# Altium footprint library Research.PcbLib: 103 footprints (part 4 of 7)
Each footprint in its own frame and in the unit in brackets; x right, y up, seen from the top. Pads: shape width x height; smd on the part's side, far side on the other; paste and mask are expansions set on the pad; w line width, h text height; cw(c..) or ccw(c..) is an arc to the next point about the centre after c.
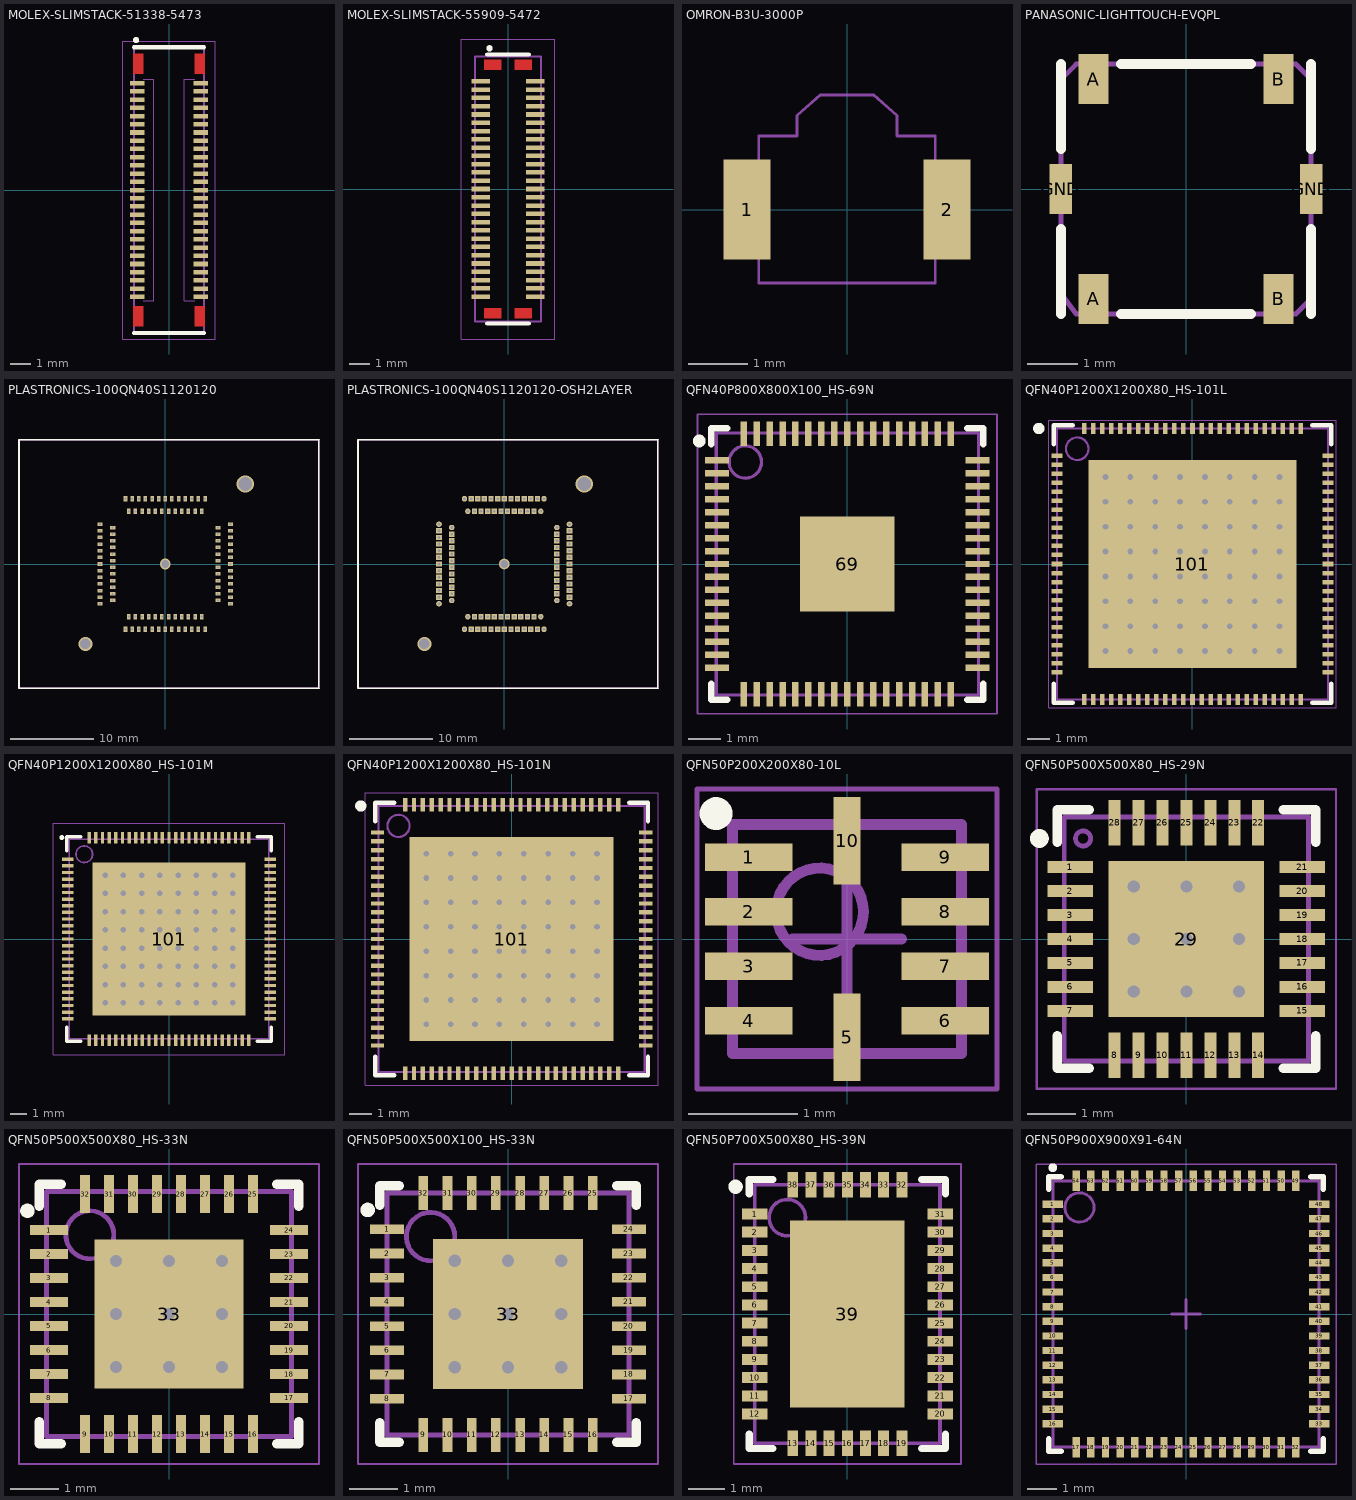
[diagram p3: the footprints below, top view; thin cyan lines are the x and y axes]

## MOLEX-SLIMSTACK-51338-5473 [mm] "Molex SlimStack Board-to-Board Conenctor, 54 pins, 1.5 mm Mated Height"
height 1.5
pads (54):
  rect 0.7x0.22 smd: 1(-1.55,5.2) 2(1.55,5.2) 3(-1.55,4.8) 4(1.55,4.8) 5(-1.55,4.4) 6(1.55,4.4) 7(-1.55,4) 8(1.55,4) 9(-1.55,3.6) 10(1.55,3.6) 11(-1.55,3.2) 12(1.55,3.2) 13(-1.55,2.8) 14(1.55,2.8) 15(-1.55,2.4) 16(1.55,2.4) 17(-1.55,2) 18(1.55,2) 19(-1.55,1.6) 20(1.55,1.6) 21(-1.55,1.2) 22(1.55,1.2) 23(-1.55,0.8) 24(1.55,0.8) 25(-1.55,0.4) 26(1.55,0.4) 27(-1.55,0) 28(1.55,0) 29(-1.55,-0.4) 30(1.55,-0.4) 31(-1.55,-0.8) 32(1.55,-0.8) 33(-1.55,-1.2) 34(1.55,-1.2) 35(-1.55,-1.6) 36(1.55,-1.6) 37(-1.55,-2) 38(1.55,-2) 39(-1.55,-2.4) 40(1.55,-2.4) 41(-1.55,-2.8) 42(1.55,-2.8) 43(-1.55,-3.2) 44(1.55,-3.2) 45(-1.55,-3.6) 46(1.55,-3.6) 47(-1.55,-4) 48(1.55,-4) 49(-1.55,-4.4) 50(1.55,-4.4) 51(-1.55,-4.8) 52(1.55,-4.8) 53(-1.55,-5.2) 54(1.55,-5.2)
Top Layer:
  rectangle: 1.25,-6.65 1.75,-5.65
  rectangle: -1.75,-6.65 -1.25,-5.65
  rectangle: 1.25,5.65 1.75,6.65
  rectangle: -1.75,5.65 -1.25,6.65
Top Overlay:
  circle w0.2: c-1.6,7.3 r0.05
  lines w0.2: -1.7,-6.95 1.7,-6.95 ; -1.7,6.95 1.7,6.95
Mechanical 13:
  lines w0.1: -1.7,-6.95 1.7,-6.95 1.7,6.95 -1.7,6.95 -1.7,-6.95
Mechanical 15:
  lines w0.05: -1.25,-5.4 -0.75,-5.4 -0.75,5.4 -1.25,5.4 ; 1.25,-5.4 0.75,-5.4 0.75,5.4 1.25,5.4 ; -2.25,-7.25 -2.25,7.25 2.25,7.25 2.25,-7.25 -2.25,-7.25
  text "KEEP ALL ROUTES PERPENDICULAR TO CONNECTOR" at -0.8,-5.25 h0.25
  text "KEEP ALL ROUTES PERPENDICULAR TO CONNECTOR" at 0.8,5.25 h0.25
Mechanical 29:
  text ".Designator" at -0.3,6.7 h0.8
3D body: height 1.37, standoff -0.03, extent -1.705,-6.95 1.705,6.95

## MOLEX-SLIMSTACK-55909-5472 [mm] "Molex SlimStack Board-to-Board Conenctor, 54 pins, 1.5 mm Mated Height"
height 1.5
pads (54):
  rect 0.9x0.22 smd: 1(-1.315,5.2) 2(1.315,5.2) 3(-1.315,4.8) 4(1.315,4.8) 5(-1.315,4.4) 6(1.315,4.4) 7(-1.315,4) 8(1.315,4) 9(-1.315,3.6) 10(1.315,3.6) 11(-1.315,3.2) 12(1.315,3.2) 13(-1.315,2.8) 14(1.315,2.8) 15(-1.315,2.4) 16(1.315,2.4) 17(-1.315,2) 18(1.315,2) 19(-1.315,1.6) 20(1.315,1.6) 21(-1.315,1.2) 22(1.315,1.2) 23(-1.315,0.8) 24(1.315,0.8) 25(-1.315,0.4) 26(1.315,0.4) 27(-1.315,0) 28(1.315,0) 29(-1.315,-0.4) 30(1.315,-0.4) 31(-1.315,-0.8) 32(1.315,-0.8) 33(-1.315,-1.2) 34(1.315,-1.2) 35(-1.315,-1.6) 36(1.315,-1.6) 37(-1.315,-2) 38(1.315,-2) 39(-1.315,-2.4) 40(1.315,-2.4) 41(-1.315,-2.8) 42(1.315,-2.8) 43(-1.315,-3.2) 44(1.315,-3.2) 45(-1.315,-3.6) 46(1.315,-3.6) 47(-1.315,-4) 48(1.315,-4) 49(-1.315,-4.4) 50(1.315,-4.4) 51(-1.315,-4.8) 52(1.315,-4.8) 53(-1.315,-5.2) 54(1.315,-5.2)
Top Layer:
  rectangle: 0.315,-6.25 1.165,-5.75
  rectangle: -1.165,-6.25 -0.315,-5.75
  rectangle: 0.315,5.75 1.165,6.25
  rectangle: -1.165,5.75 -0.315,6.25
Top Overlay:
  circle w0.2: c-0.9,6.8 r0.05
  lines w0.2: -1,-6.5 1,-6.5 ; -1,6.5 1,6.5
Mechanical 13:
  lines w0.1: -1.6,-6.4 1.6,-6.4 1.6,6.4 -1.6,6.4 -1.6,-6.4
Mechanical 15:
  lines w0.05: -2.25,-7.25 -2.25,7.25 2.25,7.25 2.25,-7.25 -2.25,-7.25
Mechanical 29:
  text ".Designator" at -0.3,5.5 h0.8
3D body: height 1.18, standoff -0.02, extent -1.565,-6.4 1.565,6.4

## OMRON-B3U-3000P [mm] "Ultra-Small-Sized Tactile Switch with High Contact Reliability"
height 1.2
pads (2):
  rect 0.8x1.7 smd: 1(-1.7,0) 2(1.7,0)
Mechanical 13:
  lines w0.05: -2,-0.7 -2,0.7 -1.5,0.7 -1.5,1.25 -0.85,1.25 -0.85,1.6 -0.45,1.95 0.45,1.95 0.85,1.6 0.85,1.25 1.5,1.25 1.5,0.7 2,0.7 2,-0.7 1.5,-0.7 1.5,-1.25 -1.5,-1.25 -1.5,-0.7 -2,-0.7
Mechanical 29:
  text ".Designator" at -1.4,-1.1 h0.8
3D body: height 0.2, standoff 0, extent 1.4,-0.7 2,0.7
3D body: height 0.2, standoff 0, extent -2,-0.7 -1.4,0.7
3D body: height 1.2, standoff 0.2, extent -0.85,1 0.85,1.95
3D body: height 1.35, standoff 0, extent -1.5,-1.25 1.5,1.25

## PANASONIC-LIGHTTOUCH-EVQPL [mm] "Panasonic Light Touch SMD push button"
height 1.5
pads (6):
  rect 0.6x1 smd: A(-1.85,-2.2) A(-1.85,2.2) B(1.85,-2.2) B(1.85,2.2)
  rect 0.45x1 smd: GND(-2.505,0) GND(2.5,0)
Top Overlay:
  lines w0.2: -2.5,-2.5 -2.5,-0.8 ; -2.5,0.8 -2.5,2.5 ; -1.3,-2.5 1.3,-2.5 ; -1.3,2.5 1.3,2.5 ; 2.5,-2.5 2.5,-0.8 ; 2.5,0.8 2.5,2.5
Mechanical 13:
  lines w0.1: -2.5,-2.1 -2.2,-2.5 2.2,-2.5 2.5,-2.2 2.5,2.2 2.2,2.5 -2.2,2.5 -2.5,2.2 -2.5,-2.1
Mechanical 29:
  text ".Designator" at -2,-2 h1
3D body: height 1.2, standoff 0, extent -1.7,-1.7 1.7,1.7
3D body: height 1.5, standoff 1, extent -1.19,-1.197 1.2,1.198
3D body: height 0.8, standoff 0, extent -2.5,-2.5 2.5,2.5

## PLASTRONICS-100QN40S1120120 [mm] "Plastronics QFN socket, 12x12mm, 0.4mm pitch, 100 contacts, spring probe center pin, PTH"
height 13.97
pads (100):
  rect 0.425x0.635 hole 0.254: 1(4.8,7.874) 2(4.4,6.35) 3(4,7.874) 4(3.6,6.35) 5(3.2,7.874) 6(2.8,6.35) 7(2.4,7.874) 8(2,6.35) 9(1.6,7.874) 10(1.2,6.35) 11(0.8,7.874) 12(0.4,6.35) 13(0,7.874) 14(-0.4,6.35) 15(-0.8,7.874) 16(-1.2,6.35) 17(-1.6,7.874) 18(-2,6.35) 19(-2.4,7.874) 20(-2.8,6.35) 21(-3.2,7.874) 22(-3.6,6.35) 23(-4,7.874) 24(-4.4,6.35) 25(-4.8,7.874) 51(-4.8,-7.874) 52(-4.4,-6.35) 53(-4,-7.874) 54(-3.6,-6.35) 55(-3.2,-7.874) 56(-2.8,-6.35) 57(-2.4,-7.874) 58(-2,-6.35) 59(-1.6,-7.874) 60(-1.2,-6.35) 61(-0.8,-7.874) 62(-0.4,-6.35) 63(0,-7.874) 64(0.4,-6.35) 65(0.8,-7.874) 66(1.2,-6.35) 67(1.6,-7.874) 68(2,-6.35) 69(2.4,-7.874) 70(2.8,-6.35) 71(3.2,-7.874) 72(3.6,-6.35) 73(4,-7.874) 74(4.4,-6.35) 75(4.8,-7.874)
  rect 0.635x0.425 hole 0.254: 26(-7.874,4.8) 27(-6.35,4.4) 28(-7.874,4) 29(-6.35,3.6) 30(-7.874,3.2) 31(-6.35,2.8) 32(-7.874,2.4) 33(-6.35,2) 34(-7.874,1.6) 35(-6.35,1.2) 36(-7.874,0.8) 37(-6.35,0.4) 38(-7.874,0) 39(-6.35,-0.4) 40(-7.874,-0.8) 41(-6.35,-1.2) 42(-7.874,-1.6) 43(-6.35,-2) 44(-7.874,-2.4) 45(-6.35,-2.8) 46(-7.874,-3.2) 47(-6.35,-3.6) 48(-7.874,-4) 49(-6.35,-4.4) 50(-7.874,-4.8) 76(7.874,-4.8) 77(6.35,-4.4) 78(7.874,-4) 79(6.35,-3.6) 80(7.874,-3.2) 81(6.35,-2.8) 82(7.874,-2.4) 83(6.35,-2) 84(7.874,-1.6) 85(6.35,-1.2) 86(7.874,-0.8) 87(6.35,-0.4) 88(7.874,0) 89(6.35,0.4) 90(7.874,0.8) 91(6.35,1.2) 92(7.874,1.6) 93(6.35,2) 94(7.874,2.4) 95(6.35,2.8) 96(7.874,3.2) 97(6.35,3.6) 98(7.874,4) 99(6.35,4.4) 100(7.874,4.8)
via 0,0 diameter 1.3 hole 0.91
via 9.65,9.65 diameter 2.1 hole 1.68
via -9.65,-9.65 diameter 1.7 hole 1.27
Top Overlay:
  lines w0.2: 18.54,-15 18.54,15 ; 18.55,-15 -17.65,-15 -17.65,15 18.55,15
Mechanical 13:
  lines w0.2: 18.54,-15 18.54,15 ; 18.55,-15 -17.65,-15 -17.65,15 18.55,15
3D body: height 9.19, standoff 4.01, extent 13.178,7.5 18.357,13
3D body: height 9.19, standoff 4.01, extent 13.198,-13 18.378,-7.5
3D body: height 12.2, standoff 6.7, extent -17.5,-15 18.5,15
3D body: height 6.6, standoff 0, extent -17.5,-15 18.5,15

## PLASTRONICS-100QN40S1120120-OSH2LAYER [mil] "Plastronics QFN socket, 12x12mm, 0.4mm pitch, 100 contacts, spring probe center pin, PTH"
height 550
pads (101):
  oval 25x27 hole 13: 1(188.98,310) 2(173.23,250) 24(-173.23,250) 25(-188.98,310) 51(-188.98,-310) 52(-173.23,-250) 74(173.23,-250) 75(188.98,-310)
  rect 25x27 hole 13: 3(157.48,310) 4(141.73,250) 5(125.98,310) 6(110.24,250) 7(94.49,310) 8(78.74,250) 9(62.99,310) 10(47.24,250) 11(31.5,310) 12(15.75,250) 13(0,310) 14(-15.75,250) 15(-31.5,310) 16(-47.24,250) 17(-62.99,310) 18(-78.74,250) 19(-94.49,310) 20(-110.24,250) 21(-125.98,310) 22(-141.73,250) 23(-157.48,310) 53(-157.48,-310) 54(-141.73,-250) 55(-125.98,-310) 56(-110.24,-250) 57(-94.49,-310) 58(-78.74,-250) 59(-62.99,-310) 60(-47.24,-250) 61(-31.5,-310) 62(-15.75,-250) 63(0,-310) 64(15.75,-250) 65(31.5,-310) 66(47.24,-250) 67(62.99,-310) 68(78.74,-250) 69(94.49,-310) 70(110.24,-250) 71(125.98,-310) 72(141.73,-250) 73(157.48,-310)
  oval 27x25 hole 13: 26(-310,188.98) 27(-250,173.23) 49(-250,-173.23) 50(-310,-188.98) 76(310,-188.98) 77(250,-173.23) 99(250,173.23) 100(310,188.98)
  rect 27x25 hole 13: 28(-310,157.48) 29(-250,141.73) 30(-310,125.98) 31(-250,110.24) 32(-310,94.49) 33(-250,78.74) 34(-310,62.99) 35(-250,47.24) 36(-310,31.5) 37(-250,15.75) 38(-310,0) 39(-250,-15.75) 40(-310,-31.5) 41(-250,-47.24) 42(-310,-62.99) 43(-250,-78.74) 44(-310,-94.49) 45(-250,-110.24) 46(-310,-125.98) 47(-250,-141.73) 48(-310,-157.48) 78(310,-157.48) 79(250,-141.73) 80(310,-125.98) 81(250,-110.24) 82(310,-94.49) 83(250,-78.74) 84(310,-62.99) 85(250,-47.24) 86(310,-31.5) 87(250,-15.75) 88(310,0) 89(250,15.75) 90(310,31.5) 91(250,47.24) 92(310,62.99) 93(250,78.74) 94(310,94.49) 95(250,110.24) 96(310,125.98) 97(250,141.73) 98(310,157.48)
  round 51.18 hole 35.83: 101(0,0)
via -379.92,-379.92 diameter 66.93 hole 50
via 379.92,379.92 diameter 82.68 hole 66.14
Top Overlay:
  lines w7.87: 729.92,-590.55 729.92,590.55 ; 730.32,-590.55 -694.88,-590.55 -694.88,590.55 730.32,590.55
Mechanical 13:
  lines w7.87: 729.92,-590.55 729.92,590.55 ; 730.32,-590.55 -694.88,-590.55 -694.88,590.55 730.32,590.55
Mechanical 29:
  text ".Designator" at -212.6,-515.75 h55.12
3D body: height 260, standoff -0.01, extent -688.98,-590.55 728.35,590.55
3D body: height 480.31, standoff 263.78, extent -688.98,-590.55 728.35,590.55
3D body: height 362, standoff 157.68, extent 519.62,-511.81 723.54,-295.28
3D body: height 362, standoff 157.68, extent 518.81,295.28 722.73,511.81

## QFN40P800X800X100_HS-69N [mm] "QFN, 68-Leads, Body 8.00x8.00mm, Pitch 0.40mm, Thermal Pad 2.92x2.92mm, IPC Medium Density"
height 1
pads (69):
  rect 0.75x0.2 smd: 1(-4.025,3.2) 2(-4.025,2.8) 3(-4.025,2.4) 4(-4.025,2) 5(-4.025,1.6) 6(-4.025,1.2) 7(-4.025,0.8) 8(-4.025,0.4) 9(-4.025,0) 10(-4.025,-0.4) 11(-4.025,-0.8) 12(-4.025,-1.2) 13(-4.025,-1.6) 14(-4.025,-2) 15(-4.025,-2.4) 16(-4.025,-2.8) 17(-4.025,-3.2) 35(4.025,-3.2) 36(4.025,-2.8) 37(4.025,-2.4) 38(4.025,-2) 39(4.025,-1.6) 40(4.025,-1.2) 41(4.025,-0.8) 42(4.025,-0.4) 43(4.025,0) 44(4.025,0.4) 45(4.025,0.8) 46(4.025,1.2) 47(4.025,1.6) 48(4.025,2) 49(4.025,2.4) 50(4.025,2.8) 51(4.025,3.2)
  rect 0.2x0.75 smd: 18(-3.2,-4.025) 19(-2.8,-4.025) 20(-2.4,-4.025) 21(-2,-4.025) 22(-1.6,-4.025) 23(-1.2,-4.025) 24(-0.8,-4.025) 25(-0.4,-4.025) 26(0,-4.025) 27(0.4,-4.025) 28(0.8,-4.025) 29(1.2,-4.025) 30(1.6,-4.025) 31(2,-4.025) 32(2.4,-4.025) 33(2.8,-4.025) 34(3.2,-4.025) 52(3.2,4.025) 53(2.8,4.025) 54(2.4,4.025) 55(2,4.025) 56(1.6,4.025) 57(1.2,4.025) 58(0.8,4.025) 59(0.4,4.025) 60(0,4.025) 61(-0.4,4.025) 62(-0.8,4.025) 63(-1.2,4.025) 64(-1.6,4.025) 65(-2,4.025) 66(-2.4,4.025) 67(-2.8,4.025) 68(-3.2,4.025)
  rect 2.92x2.92 smd paste-10: 69(0,0)
Top Overlay:
  circle w0.25: c-4.571,3.8 r0.071
  lines w0.2: -4.2,-3.7 -4.2,-4.2 -3.7,-4.2 ; -4.2,3.7 -4.2,4.2 -3.7,4.2 ; 3.7,-4.2 4.2,-4.2 4.2,-3.7 ; 3.7,4.2 4.2,4.2 4.2,3.7
Top Paste:
  rectangle: -0.4,-0.4 0.4,0.4
  rectangle: -1.4,-0.4 -0.6,0.4
  rectangle: -0.4,0.6 0.4,1.4
  rectangle: 0.6,0.6 1.4,1.4
  rectangle: -1.4,0.6 -0.6,1.4
  rectangle: 0.6,-0.4 1.4,0.4
  rectangle: 0.6,-1.4 1.4,-0.6
  rectangle: -0.4,-1.4 0.4,-0.6
  rectangle: -1.4,-1.4 -0.6,-0.6
Mechanical 13:
  circle w0.1: c-3.15,3.15 r0.5
  lines w0.1: -4.05,-4.05 -4.05,4.05 4.05,4.05 4.05,-4.05 -4.05,-4.05
Mechanical 15:
  lines w0.05: -4.625,-4.625 -4.625,4.625 4.625,4.625 4.625,-4.625 -4.625,-4.625
  lines w0.1: -0.5,0 0.5,0 ; 0,-0.5 0,0.5
Mechanical 29:
  text ".Designator" at -3.8,-3.8 h1
3D body: height 1, standoff 0, extent -4.05,-4.05 4.05,4.05

## QFN40P1200X1200X80_HS-101L [mm] "QFN, 100-Leads, Body 12.00x12.00mm, Pitch 0.40mm, Thermal Pad 9.20x9.20mm, IPC High Density"
height 0.8
pads (101):
  rect 0.5x0.2 smd: 1(-6,4.8) 2(-6,4.4) 3(-6,4) 4(-6,3.6) 5(-6,3.2) 6(-6,2.8) 7(-6,2.4) 8(-6,2) 9(-6,1.6) 10(-6,1.2) 11(-6,0.8) 12(-6,0.4) 13(-6,0) 14(-6,-0.4) 15(-6,-0.8) 16(-6,-1.2) 17(-6,-1.6) 18(-6,-2) 19(-6,-2.4) 20(-6,-2.8) 21(-6,-3.2) 22(-6,-3.6) 23(-6,-4) 24(-6,-4.4) 25(-6,-4.8) 51(6,-4.8) 52(6,-4.4) 53(6,-4) 54(6,-3.6) 55(6,-3.2) 56(6,-2.8) 57(6,-2.4) 58(6,-2) 59(6,-1.6) 60(6,-1.2) 61(6,-0.8) 62(6,-0.4) 63(6,0) 64(6,0.4) 65(6,0.8) 66(6,1.2) 67(6,1.6) 68(6,2) 69(6,2.4) 70(6,2.8) 71(6,3.2) 72(6,3.6) 73(6,4) 74(6,4.4) 75(6,4.8)
  rect 0.2x0.5 smd: 26(-4.8,-6) 27(-4.4,-6) 28(-4,-6) 29(-3.6,-6) 30(-3.2,-6) 31(-2.8,-6) 32(-2.4,-6) 33(-2,-6) 34(-1.6,-6) 35(-1.2,-6) 36(-0.8,-6) 37(-0.4,-6) 38(0,-6) 39(0.4,-6) 40(0.8,-6) 41(1.2,-6) 42(1.6,-6) 43(2,-6) 44(2.4,-6) 45(2.8,-6) 46(3.2,-6) 47(3.6,-6) 48(4,-6) 49(4.4,-6) 50(4.8,-6) 76(4.8,6) 77(4.4,6) 78(4,6) 79(3.6,6) 80(3.2,6) 81(2.8,6) 82(2.4,6) 83(2,6) 84(1.6,6) 85(1.2,6) 86(0.8,6) 87(0.4,6) 88(0,6) 89(-0.4,6) 90(-0.8,6) 91(-1.2,6) 92(-1.6,6) 93(-2,6) 94(-2.4,6) 95(-2.8,6) 96(-3.2,6) 97(-3.6,6) 98(-4,6) 99(-4.4,6) 100(-4.8,6)
  rect 9.2x9.2 smd: 101(0,0)
via 3.85,-3.85 diameter 0.45 hole 0.25
via 2.75,-3.85 diameter 0.45 hole 0.25
via 1.65,-3.85 diameter 0.45 hole 0.25
via 0.55,-3.85 diameter 0.45 hole 0.25
via -0.55,-3.85 diameter 0.45 hole 0.25
via -1.65,-3.85 diameter 0.45 hole 0.25
via -2.75,-3.85 diameter 0.45 hole 0.25
via -3.85,-3.85 diameter 0.45 hole 0.25
via 3.85,-2.75 diameter 0.45 hole 0.25
via 2.75,-2.75 diameter 0.45 hole 0.25
via 1.65,-2.75 diameter 0.45 hole 0.25
via 0.55,-2.75 diameter 0.45 hole 0.25
via -0.55,-2.75 diameter 0.45 hole 0.25
via -1.65,-2.75 diameter 0.45 hole 0.25
via -2.75,-2.75 diameter 0.45 hole 0.25
via -3.85,-2.75 diameter 0.45 hole 0.25
via 3.85,-1.65 diameter 0.45 hole 0.25
via 2.75,-1.65 diameter 0.45 hole 0.25
via 1.65,-1.65 diameter 0.45 hole 0.25
via 0.55,-1.65 diameter 0.45 hole 0.25
via -0.55,-1.65 diameter 0.45 hole 0.25
via -1.65,-1.65 diameter 0.45 hole 0.25
via -2.75,-1.65 diameter 0.45 hole 0.25
via -3.85,-1.65 diameter 0.45 hole 0.25
via 3.85,-0.55 diameter 0.45 hole 0.25
via 2.75,-0.55 diameter 0.45 hole 0.25
via 1.65,-0.55 diameter 0.45 hole 0.25
via 0.55,-0.55 diameter 0.45 hole 0.25
via -0.55,-0.55 diameter 0.45 hole 0.25
via -1.65,-0.55 diameter 0.45 hole 0.25
via -2.75,-0.55 diameter 0.45 hole 0.25
via -3.85,-0.55 diameter 0.45 hole 0.25
via 3.85,0.55 diameter 0.45 hole 0.25
via 2.75,0.55 diameter 0.45 hole 0.25
via 1.65,0.55 diameter 0.45 hole 0.25
via 0.55,0.55 diameter 0.45 hole 0.25
via -0.55,0.55 diameter 0.45 hole 0.25
via -1.65,0.55 diameter 0.45 hole 0.25
via -2.75,0.55 diameter 0.45 hole 0.25
via -3.85,0.55 diameter 0.45 hole 0.25
via 3.85,1.65 diameter 0.45 hole 0.25
via 2.75,1.65 diameter 0.45 hole 0.25
via 1.65,1.65 diameter 0.45 hole 0.25
via 0.55,1.65 diameter 0.45 hole 0.25
via -0.55,1.65 diameter 0.45 hole 0.25
via -1.65,1.65 diameter 0.45 hole 0.25
via -2.75,1.65 diameter 0.45 hole 0.25
via -3.85,1.65 diameter 0.45 hole 0.25
via 3.85,2.75 diameter 0.45 hole 0.25
via 2.75,2.75 diameter 0.45 hole 0.25
via 1.65,2.75 diameter 0.45 hole 0.25
via 0.55,2.75 diameter 0.45 hole 0.25
via -0.55,2.75 diameter 0.45 hole 0.25
via -1.65,2.75 diameter 0.45 hole 0.25
via -2.75,2.75 diameter 0.45 hole 0.25
via -3.85,2.75 diameter 0.45 hole 0.25
via 3.85,3.85 diameter 0.45 hole 0.25
via 2.75,3.85 diameter 0.45 hole 0.25
via 1.65,3.85 diameter 0.45 hole 0.25
via 0.55,3.85 diameter 0.45 hole 0.25
via -0.55,3.85 diameter 0.45 hole 0.25
via -1.65,3.85 diameter 0.45 hole 0.25
via -2.75,3.85 diameter 0.45 hole 0.25
via -3.85,3.85 diameter 0.45 hole 0.25
Top Overlay:
  circle w0.25: c-6.8,6 r0.125
  lines w0.2: -6.15,-5.3 -6.15,-6.15 -5.3,-6.15 ; -6.15,5.3 -6.15,6.15 -5.3,6.15 ; 5.3,-6.15 6.15,-6.15 6.15,-5.3 ; 5.3,6.15 6.15,6.15 6.15,5.3
Mechanical 13:
  circle w0.1: c-5.1,5.1 r0.5
  lines w0.1: -6,-6 6,-6 6,6 -6,6 -6,-6
Mechanical 15:
  lines w0.05: -6.35,-6.35 6.35,-6.35 6.35,6.35 -6.35,6.35 -6.35,-6.35
  lines w0.1: -0.5,0 0.5,0 ; 0,-0.5 0,0.5
Mechanical 29:
  text ".Designator" at -5.8,-5.8 h0.8
3D body: height 0.8, standoff 0, extent -6,-6 6,6

## QFN40P1200X1200X80_HS-101M [mm] "QFN, 100-Leads, Body 12.00x12.00mm, Pitch 0.40mm, Thermal Pad 9.20x9.20mm, IPC Low Density"
height 0.8
pads (101):
  rect 0.7x0.2 smd: 1(-6.1,4.8) 2(-6.1,4.4) 3(-6.1,4) 4(-6.1,3.6) 5(-6.1,3.2) 6(-6.1,2.8) 7(-6.1,2.4) 8(-6.1,2) 9(-6.1,1.6) 10(-6.1,1.2) 11(-6.1,0.8) 12(-6.1,0.4) 13(-6.1,0) 14(-6.1,-0.4) 15(-6.1,-0.8) 16(-6.1,-1.2) 17(-6.1,-1.6) 18(-6.1,-2) 19(-6.1,-2.4) 20(-6.1,-2.8) 21(-6.1,-3.2) 22(-6.1,-3.6) 23(-6.1,-4) 24(-6.1,-4.4) 25(-6.1,-4.8) 51(6.1,-4.8) 52(6.1,-4.4) 53(6.1,-4) 54(6.1,-3.6) 55(6.1,-3.2) 56(6.1,-2.8) 57(6.1,-2.4) 58(6.1,-2) 59(6.1,-1.6) 60(6.1,-1.2) 61(6.1,-0.8) 62(6.1,-0.4) 63(6.1,0) 64(6.1,0.4) 65(6.1,0.8) 66(6.1,1.2) 67(6.1,1.6) 68(6.1,2) 69(6.1,2.4) 70(6.1,2.8) 71(6.1,3.2) 72(6.1,3.6) 73(6.1,4) 74(6.1,4.4) 75(6.1,4.8)
  rect 0.2x0.7 smd: 26(-4.8,-6.1) 27(-4.4,-6.1) 28(-4,-6.1) 29(-3.6,-6.1) 30(-3.2,-6.1) 31(-2.8,-6.1) 32(-2.4,-6.1) 33(-2,-6.1) 34(-1.6,-6.1) 35(-1.2,-6.1) 36(-0.8,-6.1) 37(-0.4,-6.1) 38(0,-6.1) 39(0.4,-6.1) 40(0.8,-6.1) 41(1.2,-6.1) 42(1.6,-6.1) 43(2,-6.1) 44(2.4,-6.1) 45(2.8,-6.1) 46(3.2,-6.1) 47(3.6,-6.1) 48(4,-6.1) 49(4.4,-6.1) 50(4.8,-6.1) 76(4.8,6.1) 77(4.4,6.1) 78(4,6.1) 79(3.6,6.1) 80(3.2,6.1) 81(2.8,6.1) 82(2.4,6.1) 83(2,6.1) 84(1.6,6.1) 85(1.2,6.1) 86(0.8,6.1) 87(0.4,6.1) 88(0,6.1) 89(-0.4,6.1) 90(-0.8,6.1) 91(-1.2,6.1) 92(-1.6,6.1) 93(-2,6.1) 94(-2.4,6.1) 95(-2.8,6.1) 96(-3.2,6.1) 97(-3.6,6.1) 98(-4,6.1) 99(-4.4,6.1) 100(-4.8,6.1)
  rect 9.2x9.2 smd paste-10 mask-10: 101(0,0)
via -3.85,3.85 diameter 0.686 hole 0.33
via -2.75,3.85 diameter 0.686 hole 0.33
via -1.65,3.85 diameter 0.686 hole 0.33
via -0.55,3.85 diameter 0.686 hole 0.33
via 0.55,3.85 diameter 0.686 hole 0.33
via 1.65,3.85 diameter 0.686 hole 0.33
via 2.75,3.85 diameter 0.686 hole 0.33
via 3.85,3.85 diameter 0.686 hole 0.33
via -3.85,2.75 diameter 0.686 hole 0.33
via -2.75,2.75 diameter 0.686 hole 0.33
via -1.65,2.75 diameter 0.686 hole 0.33
via -0.55,2.75 diameter 0.686 hole 0.33
via 0.55,2.75 diameter 0.686 hole 0.33
via 1.65,2.75 diameter 0.686 hole 0.33
via 2.75,2.75 diameter 0.686 hole 0.33
via 3.85,2.75 diameter 0.686 hole 0.33
via -3.85,1.65 diameter 0.686 hole 0.33
via -2.75,1.65 diameter 0.686 hole 0.33
via -1.65,1.65 diameter 0.686 hole 0.33
via -0.55,1.65 diameter 0.686 hole 0.33
via 0.55,1.65 diameter 0.686 hole 0.33
via 1.65,1.65 diameter 0.686 hole 0.33
via 2.75,1.65 diameter 0.686 hole 0.33
via 3.85,1.65 diameter 0.686 hole 0.33
via -3.85,0.55 diameter 0.686 hole 0.33
via -2.75,0.55 diameter 0.686 hole 0.33
via -1.65,0.55 diameter 0.686 hole 0.33
via -0.55,0.55 diameter 0.686 hole 0.33
via 0.55,0.55 diameter 0.686 hole 0.33
via 1.65,0.55 diameter 0.686 hole 0.33
via 2.75,0.55 diameter 0.686 hole 0.33
via 3.85,0.55 diameter 0.686 hole 0.33
via -3.85,-0.55 diameter 0.686 hole 0.33
via -2.75,-0.55 diameter 0.686 hole 0.33
via -1.65,-0.55 diameter 0.686 hole 0.33
via -0.55,-0.55 diameter 0.686 hole 0.33
via 0.55,-0.55 diameter 0.686 hole 0.33
via 1.65,-0.55 diameter 0.686 hole 0.33
via 2.75,-0.55 diameter 0.686 hole 0.33
via 3.85,-0.55 diameter 0.686 hole 0.33
via -3.85,-1.65 diameter 0.686 hole 0.33
via -2.75,-1.65 diameter 0.686 hole 0.33
via -1.65,-1.65 diameter 0.686 hole 0.33
via -0.55,-1.65 diameter 0.686 hole 0.33
via 0.55,-1.65 diameter 0.686 hole 0.33
via 1.65,-1.65 diameter 0.686 hole 0.33
via 2.75,-1.65 diameter 0.686 hole 0.33
via 3.85,-1.65 diameter 0.686 hole 0.33
via -3.85,-2.75 diameter 0.686 hole 0.33
via -2.75,-2.75 diameter 0.686 hole 0.33
via -1.65,-2.75 diameter 0.686 hole 0.33
via -0.55,-2.75 diameter 0.686 hole 0.33
via 0.55,-2.75 diameter 0.686 hole 0.33
via 1.65,-2.75 diameter 0.686 hole 0.33
via 2.75,-2.75 diameter 0.686 hole 0.33
via 3.85,-2.75 diameter 0.686 hole 0.33
via -3.85,-3.85 diameter 0.686 hole 0.33
via -2.75,-3.85 diameter 0.686 hole 0.33
via -1.65,-3.85 diameter 0.686 hole 0.33
via -0.55,-3.85 diameter 0.686 hole 0.33
via 0.55,-3.85 diameter 0.686 hole 0.33
via 1.65,-3.85 diameter 0.686 hole 0.33
via 2.75,-3.85 diameter 0.686 hole 0.33
via 3.85,-3.85 diameter 0.686 hole 0.33
Top Overlay:
  circle w0.2: c-6.45,6.1 r0.05
  lines w0.2: -6.15,-5.3 -6.15,-6.15 -5.3,-6.15 ; -6.15,5.3 -6.15,6.15 -5.3,6.15 ; 5.3,-6.15 6.15,-6.15 6.15,-5.3 ; 5.3,6.15 6.15,6.15 6.15,5.3
Top Paste:
  rectangle: -1,-1 -0.1,-0.1
  rectangle: -2.1,-2.1 -1.2,-1.2
  rectangle: -2.1,-3.2 -1.2,-2.3
  rectangle: -2.1,-1 -1.2,-0.1
  rectangle: -1,-2.1 -0.1,-1.2
  rectangle: -1,-3.2 -0.1,-2.3
  rectangle: -1,-4.3 -0.1,-3.4
  rectangle: -2.1,-4.3 -1.2,-3.4
  rectangle: -3.2,-4.3 -2.3,-3.4
  rectangle: -4.3,-4.3 -3.4,-3.4
  rectangle: -4.3,-3.2 -3.4,-2.3
  rectangle: -3.2,-3.2 -2.3,-2.3
  rectangle: -3.2,-2.1 -2.3,-1.2
  rectangle: -4.3,-2.1 -3.4,-1.2
  rectangle: -4.3,-1 -3.4,-0.1
  rectangle: -3.2,-1 -2.3,-0.1
  rectangle: -3.2,3.4 -2.3,4.3
  rectangle: -4.3,3.4 -3.4,4.3
  rectangle: -4.3,2.3 -3.4,3.2
  rectangle: -3.2,2.3 -2.3,3.2
  rectangle: -3.2,1.2 -2.3,2.1
  rectangle: -4.3,1.2 -3.4,2.1
  rectangle: -4.3,0.1 -3.4,1
  rectangle: -3.2,0.1 -2.3,1
  rectangle: -2.1,0.1 -1.2,1
  rectangle: -1,0.1 -0.1,1
  rectangle: -1,1.2 -0.1,2.1
  rectangle: -1,2.3 -0.1,3.2
  rectangle: -2.1,3.4 -1.2,4.3
  rectangle: -2.1,1.2 -1.2,2.1
  rectangle: -2.1,2.3 -1.2,3.2
  rectangle: -1,3.4 -0.1,4.3
  rectangle: 1.2,3.4 2.1,4.3
  rectangle: 0.1,3.4 1,4.3
  rectangle: 0.1,2.3 1,3.2
  rectangle: 1.2,2.3 2.1,3.2
  rectangle: 1.2,1.2 2.1,2.1
  rectangle: 0.1,1.2 1,2.1
  rectangle: 0.1,0.1 1,1
  rectangle: 1.2,0.1 2.1,1
  rectangle: 2.3,0.1 3.2,1
  rectangle: 3.4,0.1 4.3,1
  rectangle: 3.4,1.2 4.3,2.1
  rectangle: 3.4,2.3 4.3,3.2
  rectangle: 2.3,3.4 3.2,4.3
  rectangle: 2.3,1.2 3.2,2.1
  rectangle: 2.3,2.3 3.2,3.2
  rectangle: 3.4,3.4 4.3,4.3
  rectangle: 1.2,-1 2.1,-0.1
  rectangle: 0.1,-1 1,-0.1
  rectangle: 0.1,-2.1 1,-1.2
  rectangle: 1.2,-2.1 2.1,-1.2
  rectangle: 1.2,-3.2 2.1,-2.3
  rectangle: 0.1,-3.2 1,-2.3
  rectangle: 0.1,-4.3 1,-3.4
  rectangle: 1.2,-4.3 2.1,-3.4
  rectangle: 2.3,-4.3 3.2,-3.4
  rectangle: 3.4,-4.3 4.3,-3.4
  rectangle: 3.4,-3.2 4.3,-2.3
  rectangle: 3.4,-2.1 4.3,-1.2
  rectangle: 2.3,-1 3.2,-0.1
  rectangle: 2.3,-3.2 3.2,-2.3
  rectangle: 2.3,-2.1 3.2,-1.2
  rectangle: 3.4,-1 4.3,-0.1
Top Solder:
  circle w0.55: c-2.75,-1.65 r0.525
  circle w0.55: c-2.75,-2.75 r0.525
  circle w0.55: c-2.75,-3.85 r0.525
  circle w0.55: c-3.85,-3.85 r0.525
  circle w0.55: c-3.85,-2.75 r0.525
  circle w0.55: c-3.85,-1.65 r0.525
  circle w0.55: c-2.75,2.75 r0.525
  circle w0.55: c-3.85,3.85 r0.525
  circle w0.55: c-2.75,3.85 r0.525
  circle w0.55: c-3.85,2.75 r0.525
  circle w0.55: c-2.75,1.65 r0.525
  circle w0.55: c-3.85,1.65 r0.525
  circle w0.55: c-2.75,0.55 r0.525
  circle w0.55: c-3.85,0.55 r0.525
  circle w0.55: c-3.85,-0.55 r0.525
  circle w0.55: c-2.75,-0.55 r0.525
  circle w0.55: c-0.55,-1.65 r0.525
  circle w0.55: c-0.55,-2.75 r0.525
  circle w0.55: c-0.55,-3.85 r0.525
  circle w0.55: c-1.65,-3.85 r0.525
  circle w0.55: c-1.65,-2.75 r0.525
  circle w0.55: c-1.65,-1.65 r0.525
  circle w0.55: c-0.55,2.75 r0.525
  circle w0.55: c-1.65,3.85 r0.525
  circle w0.55: c-0.55,3.85 r0.525
  circle w0.55: c-1.65,2.75 r0.525
  circle w0.55: c-0.55,1.65 r0.525
  circle w0.55: c-1.65,1.65 r0.525
  circle w0.55: c-0.55,0.55 r0.525
  circle w0.55: c-1.65,0.55 r0.525
  circle w0.55: c-1.65,-0.55 r0.525
  circle w0.55: c-0.55,-0.55 r0.525
  circle w0.55: c1.65,-1.65 r0.525
  circle w0.55: c1.65,-2.75 r0.525
  circle w0.55: c1.65,-3.85 r0.525
  circle w0.55: c0.55,-3.85 r0.525
  circle w0.55: c0.55,-2.75 r0.525
  circle w0.55: c0.55,-1.65 r0.525
  circle w0.55: c1.65,2.75 r0.525
  circle w0.55: c0.55,3.85 r0.525
  circle w0.55: c1.65,3.85 r0.525
  circle w0.55: c0.55,2.75 r0.525
  circle w0.55: c1.65,1.65 r0.525
  circle w0.55: c0.55,1.65 r0.525
  circle w0.55: c1.65,0.55 r0.525
  circle w0.55: c0.55,0.55 r0.525
  circle w0.55: c0.55,-0.55 r0.525
  circle w0.55: c1.65,-0.55 r0.525
  circle w0.55: c3.85,-1.65 r0.525
  circle w0.55: c3.85,-2.75 r0.525
  circle w0.55: c3.85,-3.85 r0.525
  circle w0.55: c2.75,-3.85 r0.525
  circle w0.55: c2.75,-2.75 r0.525
  circle w0.55: c2.75,-1.65 r0.525
  circle w0.55: c3.85,2.75 r0.525
  circle w0.55: c2.75,3.85 r0.525
  circle w0.55: c3.85,3.85 r0.525
  circle w0.55: c2.75,2.75 r0.525
  circle w0.55: c3.85,1.65 r0.525
  circle w0.55: c2.75,1.65 r0.525
  circle w0.55: c3.85,0.55 r0.525
  circle w0.55: c2.75,0.55 r0.525
  circle w0.55: c2.75,-0.55 r0.525
  circle w0.55: c3.85,-0.55 r0.525
  rectangle: -4.65,4.1 4.65,4.65
  rectangle: -4.65,-4.65 4.65,-4.1
  region: -4.1,-4.65 -4.1,4.65 -4.65,4.65 -4.65,-4.65
  region: 4.65,-4.65 4.65,4.65 4.1,4.65 4.1,-4.65
Mechanical 13:
  circle w0.1: c-5.1,5.1 r0.5
  lines w0.1: -6,-6 -6,6 6,6 6,-6 -6,-6
Mechanical 15:
  lines w0.05: -6.95,-6.95 -6.95,6.95 6.95,6.95 6.95,-6.95 -6.95,-6.95
  lines w0.1: -0.5,0 0.5,0 ; 0,-0.5 0,0.5
Mechanical 29:
  text ".Designator" at -5.8,-5.8 h0.8
3D body: height 0.8, standoff 0, extent -6,-6 6,6

## QFN40P1200X1200X80_HS-101N [mm] "QFN, 100-Leads, Body 12.00x12.00mm, Pitch 0.40mm, Thermal Pad 9.20x9.20mm, IPC Medium Density"
height 0.8
pads (101):
  rect 0.6x0.2 smd: 1(-6.05,4.8) 2(-6.05,4.4) 3(-6.05,4) 4(-6.05,3.6) 5(-6.05,3.2) 6(-6.05,2.8) 7(-6.05,2.4) 8(-6.05,2) 9(-6.05,1.6) 10(-6.05,1.2) 11(-6.05,0.8) 12(-6.05,0.4) 13(-6.05,0) 14(-6.05,-0.4) 15(-6.05,-0.8) 16(-6.05,-1.2) 17(-6.05,-1.6) 18(-6.05,-2) 19(-6.05,-2.4) 20(-6.05,-2.8) 21(-6.05,-3.2) 22(-6.05,-3.6) 23(-6.05,-4) 24(-6.05,-4.4) 25(-6.05,-4.8) 51(6.05,-4.8) 52(6.05,-4.4) 53(6.05,-4) 54(6.05,-3.6) 55(6.05,-3.2) 56(6.05,-2.8) 57(6.05,-2.4) 58(6.05,-2) 59(6.05,-1.6) 60(6.05,-1.2) 61(6.05,-0.8) 62(6.05,-0.4) 63(6.05,0) 64(6.05,0.4) 65(6.05,0.8) 66(6.05,1.2) 67(6.05,1.6) 68(6.05,2) 69(6.05,2.4) 70(6.05,2.8) 71(6.05,3.2) 72(6.05,3.6) 73(6.05,4) 74(6.05,4.4) 75(6.05,4.8)
  rect 0.2x0.6 smd: 26(-4.8,-6.05) 27(-4.4,-6.05) 28(-4,-6.05) 29(-3.6,-6.05) 30(-3.2,-6.05) 31(-2.8,-6.05) 32(-2.4,-6.05) 33(-2,-6.05) 34(-1.6,-6.05) 35(-1.2,-6.05) 36(-0.8,-6.05) 37(-0.4,-6.05) 38(0,-6.05) 39(0.4,-6.05) 40(0.8,-6.05) 41(1.2,-6.05) 42(1.6,-6.05) 43(2,-6.05) 44(2.4,-6.05) 45(2.8,-6.05) 46(3.2,-6.05) 47(3.6,-6.05) 48(4,-6.05) 49(4.4,-6.05) 50(4.8,-6.05) 76(4.8,6.05) 77(4.4,6.05) 78(4,6.05) 79(3.6,6.05) 80(3.2,6.05) 81(2.8,6.05) 82(2.4,6.05) 83(2,6.05) 84(1.6,6.05) 85(1.2,6.05) 86(0.8,6.05) 87(0.4,6.05) 88(0,6.05) 89(-0.4,6.05) 90(-0.8,6.05) 91(-1.2,6.05) 92(-1.6,6.05) 93(-2,6.05) 94(-2.4,6.05) 95(-2.8,6.05) 96(-3.2,6.05) 97(-3.6,6.05) 98(-4,6.05) 99(-4.4,6.05) 100(-4.8,6.05)
  rect 9.2x9.2 smd: 101(0,0)
via -3.85,3.85 diameter 0.45 hole 0.25
via -2.75,3.85 diameter 0.45 hole 0.25
via -1.65,3.85 diameter 0.45 hole 0.25
via -0.55,3.85 diameter 0.45 hole 0.25
via 0.55,3.85 diameter 0.45 hole 0.25
via 1.65,3.85 diameter 0.45 hole 0.25
via 2.75,3.85 diameter 0.45 hole 0.25
via 3.85,3.85 diameter 0.45 hole 0.25
via -3.85,2.75 diameter 0.45 hole 0.25
via -2.75,2.75 diameter 0.45 hole 0.25
via -1.65,2.75 diameter 0.45 hole 0.25
via -0.55,2.75 diameter 0.45 hole 0.25
via 0.55,2.75 diameter 0.45 hole 0.25
via 1.65,2.75 diameter 0.45 hole 0.25
via 2.75,2.75 diameter 0.45 hole 0.25
via 3.85,2.75 diameter 0.45 hole 0.25
via -3.85,1.65 diameter 0.45 hole 0.25
via -2.75,1.65 diameter 0.45 hole 0.25
via -1.65,1.65 diameter 0.45 hole 0.25
via -0.55,1.65 diameter 0.45 hole 0.25
via 0.55,1.65 diameter 0.45 hole 0.25
via 1.65,1.65 diameter 0.45 hole 0.25
via 2.75,1.65 diameter 0.45 hole 0.25
via 3.85,1.65 diameter 0.45 hole 0.25
via -3.85,0.55 diameter 0.45 hole 0.25
via -2.75,0.55 diameter 0.45 hole 0.25
via -1.65,0.55 diameter 0.45 hole 0.25
via -0.55,0.55 diameter 0.45 hole 0.25
via 0.55,0.55 diameter 0.45 hole 0.25
via 1.65,0.55 diameter 0.45 hole 0.25
via 2.75,0.55 diameter 0.45 hole 0.25
via 3.85,0.55 diameter 0.45 hole 0.25
via -3.85,-0.55 diameter 0.45 hole 0.25
via -2.75,-0.55 diameter 0.45 hole 0.25
via -1.65,-0.55 diameter 0.45 hole 0.25
via -0.55,-0.55 diameter 0.45 hole 0.25
via 0.55,-0.55 diameter 0.45 hole 0.25
via 1.65,-0.55 diameter 0.45 hole 0.25
via 2.75,-0.55 diameter 0.45 hole 0.25
via 3.85,-0.55 diameter 0.45 hole 0.25
via -3.85,-1.65 diameter 0.45 hole 0.25
via -2.75,-1.65 diameter 0.45 hole 0.25
via -1.65,-1.65 diameter 0.45 hole 0.25
via -0.55,-1.65 diameter 0.45 hole 0.25
via 0.55,-1.65 diameter 0.45 hole 0.25
via 1.65,-1.65 diameter 0.45 hole 0.25
via 2.75,-1.65 diameter 0.45 hole 0.25
via 3.85,-1.65 diameter 0.45 hole 0.25
via -3.85,-2.75 diameter 0.45 hole 0.25
via -2.75,-2.75 diameter 0.45 hole 0.25
via -1.65,-2.75 diameter 0.45 hole 0.25
via -0.55,-2.75 diameter 0.45 hole 0.25
via 0.55,-2.75 diameter 0.45 hole 0.25
via 1.65,-2.75 diameter 0.45 hole 0.25
via 2.75,-2.75 diameter 0.45 hole 0.25
via 3.85,-2.75 diameter 0.45 hole 0.25
via -3.85,-3.85 diameter 0.45 hole 0.25
via -2.75,-3.85 diameter 0.45 hole 0.25
via -1.65,-3.85 diameter 0.45 hole 0.25
via -0.55,-3.85 diameter 0.45 hole 0.25
via 0.55,-3.85 diameter 0.45 hole 0.25
via 1.65,-3.85 diameter 0.45 hole 0.25
via 2.75,-3.85 diameter 0.45 hole 0.25
via 3.85,-3.85 diameter 0.45 hole 0.25
Top Overlay:
  circle w0.25: c-6.8,6 r0.125
  lines w0.2: -6.15,-5.3 -6.15,-6.15 -5.3,-6.15 ; -6.15,5.3 -6.15,6.15 -5.3,6.15 ; 5.3,-6.15 6.15,-6.15 6.15,-5.3 ; 5.3,6.15 6.15,6.15 6.15,5.3
Mechanical 13:
  circle w0.1: c-5.1,5.1 r0.5
  lines w0.1: -6,-6 -6,6 6,6 6,-6 -6,-6
Mechanical 15:
  lines w0.05: -6.6,-6.6 -6.6,6.6 6.6,6.6 6.6,-6.6 -6.6,-6.6
  lines w0.1: -0.5,0 0.5,0 ; 0,-0.5 0,0.5
Mechanical 29:
  text ".Designator" at -5.8,-5.8 h0.8
3D body: height 0.8, standoff 0, extent -6,-6 6,6

## QFN50P200X200X80-10L [mm] "QFN, 10-Leads, Body 2.00x2.00mm, Pitch 0.50mm, IPC High Density"
height 0.8
pads (10):
  rect 0.8x0.25 smd: 1(-0.9,0.75) 2(-0.9,0.25) 3(-0.9,-0.25) 4(-0.9,-0.75) 6(0.9,-0.75) 7(0.9,-0.25) 8(0.9,0.25) 9(0.9,0.75)
  rect 0.25x0.8 smd: 5(0,-0.9) 10(0,0.9)
Top Overlay:
  circle w0.2: c-1.2,1.15 r0.05
Mechanical 13:
  circle w0.1: c-0.25,0.25 r0.4
  lines w0.1: -1.05,-1.05 1.05,-1.05 1.05,1.05 -1.05,1.05 -1.05,-1.05
Mechanical 15:
  lines w0.05: -1.375,-1.375 1.375,-1.375 1.375,1.375 -1.375,1.375 -1.375,-1.375
  lines w0.1: -0.5,0 0.5,0 ; 0,-0.5 0,0.5
Mechanical 29:
  text ".Designator" at -0.9,-0.9 h0.4
3D body: height 0.8, standoff 0, extent -1.05,-1.05 1.05,1.05

## QFN50P500X500X80_HS-29N [mm] "QFN, 28-Leads, Body 5.00x5.00mm, Pitch 0.50mm, Thermal Pad 3.25x3.25mm, IPC Medium Density"
height 0.8
pads (29):
  rect 0.95x0.25 smd: 1(-2.425,1.5) 2(-2.425,1) 3(-2.425,0.5) 4(-2.425,0) 5(-2.425,-0.5) 6(-2.425,-1) 7(-2.425,-1.5) 15(2.425,-1.5) 16(2.425,-1) 17(2.425,-0.5) 18(2.425,0) 19(2.425,0.5) 20(2.425,1) 21(2.425,1.5)
  rect 0.25x0.95 smd: 8(-1.5,-2.425) 9(-1,-2.425) 10(-0.5,-2.425) 11(0,-2.425) 12(0.5,-2.425) 13(1,-2.425) 14(1.5,-2.425) 22(1.5,2.425) 23(1,2.425) 24(0.5,2.425) 25(0,2.425) 26(-0.5,2.425) 27(-1,2.425) 28(-1.5,2.425)
  rect 3.25x3.25 smd paste-10: 29(0,0)
via 1.1,-1.1 diameter 0.457 hole 0.254
via 0,-1.1 diameter 0.457 hole 0.254
via -1.1,-1.1 diameter 0.457 hole 0.254
via 1.1,0 diameter 0.457 hole 0.254
via 0,0 diameter 0.457 hole 0.254
via -1.1,0 diameter 0.457 hole 0.254
via 1.1,1.1 diameter 0.457 hole 0.254
via 0,1.1 diameter 0.457 hole 0.254
via -1.1,1.1 diameter 0.457 hole 0.254
Top Overlay:
  circle w0.25: c-3.071,2.1 r0.071
  lines w0.2: -2.7,-2.025 -2.7,-2.7 -2.025,-2.7 ; -2.7,2.025 -2.7,2.7 -2.025,2.7 ; 2.025,-2.7 2.7,-2.7 2.7,-2.025 ; 2.025,2.7 2.7,2.7 2.7,2.025
Top Paste:
  rectangle: -1.5,0.7 -0.7,1.5
  rectangle: -0.4,0.7 0.4,1.5
  rectangle: 0.7,0.7 1.5,1.5
  rectangle: 0.7,-0.4 1.5,0.4
  rectangle: -0.4,-0.4 0.4,0.4
  rectangle: -1.5,-0.4 -0.7,0.4
  rectangle: -1.5,-1.5 -0.7,-0.7
  rectangle: -0.4,-1.5 0.4,-0.7
  rectangle: 0.7,-1.5 1.5,-0.7
Mechanical 13:
  circle w0.1: c-2.158,2.1 r0.158
  lines w0.1: -2.55,-2.55 2.55,-2.55 2.55,2.55 -2.55,2.55 -2.55,-2.55
Mechanical 15:
  lines w0.05: -3.125,-3.125 3.125,-3.125 3.125,3.125 -3.125,3.125 -3.125,-3.125
  lines w0.1: -0.5,0 0.5,0 ; 0,-0.5 0,0.5
Mechanical 29:
  text ".Designator" at -2.4,-2.4 h0.8
3D body: height 0.8, standoff 0, extent -2.55,-2.55 2.55,2.55

## QFN50P500X500X80_HS-33N [mm] "QFN, 32-Leads, Body 5.00x5.00mm, Pitch 0.50mm, Thermal Pad 3.10x3.10mm, IPC Medium Density"
height 0.8
pads (33):
  rect 0.8x0.2 smd: 1(-2.5,1.75) 2(-2.5,1.25) 3(-2.5,0.75) 4(-2.5,0.25) 5(-2.5,-0.25) 6(-2.5,-0.75) 7(-2.5,-1.25) 8(-2.5,-1.75) 17(2.5,-1.75) 18(2.5,-1.25) 19(2.5,-0.75) 20(2.5,-0.25) 21(2.5,0.25) 22(2.5,0.75) 23(2.5,1.25) 24(2.5,1.75)
  rect 0.2x0.8 smd: 9(-1.75,-2.5) 10(-1.25,-2.5) 11(-0.75,-2.5) 12(-0.25,-2.5) 13(0.25,-2.5) 14(0.75,-2.5) 15(1.25,-2.5) 16(1.75,-2.5) 25(1.75,2.5) 26(1.25,2.5) 27(0.75,2.5) 28(0.25,2.5) 29(-0.25,2.5) 30(-0.75,2.5) 31(-1.25,2.5) 32(-1.75,2.5)
  rect 3.1x3.1 smd: 33(0,0)
via -1.1,1.1 diameter 0.45 hole 0.25
via 0,1.1 diameter 0.45 hole 0.25
via 1.1,1.1 diameter 0.45 hole 0.25
via -1.1,0 diameter 0.45 hole 0.25
via 0,0 diameter 0.45 hole 0.25
via 1.1,0 diameter 0.45 hole 0.25
via -1.1,-1.1 diameter 0.45 hole 0.25
via 0,-1.1 diameter 0.45 hole 0.25
via 1.1,-1.1 diameter 0.45 hole 0.25
Top Overlay:
  circle w0.2: c-2.95,2.15 r0.05
  lines w0.2: -2.7,-2.25 -2.7,-2.7 -2.25,-2.7 ; -2.7,2.25 -2.7,2.7 -2.25,2.7 ; 2.25,-2.7 2.7,-2.7 2.7,-2.25 ; 2.25,2.7 2.7,2.7 2.7,2.25
Top Solder:
  circle w0.2: c1.1,-1.1 r0.35
  circle w0.2: c0,-1.1 r0.35
  circle w0.2: c-1.1,-1.1 r0.35
  circle w0.2: c-1.1,0 r0.35
  circle w0.2: c0,0 r0.35
  circle w0.2: c1.1,0 r0.35
  circle w0.2: c1.1,1.1 r0.35
  circle w0.2: c0,1.1 r0.35
  circle w0.2: c-1.1,1.1 r0.35
  region: 1.55,-0.25 -1.55,-0.25 -1.55,-0.85 1.55,-0.85
  region: 1.55,0.85 -1.55,0.85 -1.55,0.25 1.55,0.25
  region: 0.85,-1.55 0.85,1.55 0.25,1.55 0.25,-1.55
  region: -0.25,-1.55 -0.25,1.55 -0.85,1.55 -0.85,-1.55
  region: -1.35,-1.55 -1.35,1.55 -1.55,1.55 -1.55,-1.55
  region: 1.55,-1.55 1.55,1.55 1.35,1.55 1.35,-1.55
  rectangle: -1.55,1.35 1.55,1.55
  rectangle: -1.55,-1.55 1.55,-1.35
Mechanical 13:
  circle w0.1: c-1.65,1.65 r0.5
  lines w0.1: -2.55,-2.55 -2.55,2.55 2.55,2.55 2.55,-2.55 -2.55,-2.55
Mechanical 15:
  lines w0.05: -3.125,-3.125 -3.125,3.125 3.125,3.125 3.125,-3.125 -3.125,-3.125
  lines w0.1: -0.5,0 0.5,0 ; 0,-0.5 0,0.5
Mechanical 29:
  text ".Designator" at -2.4,-2.4 h0.8
3D body: height 0.8, standoff 0.02, extent -2.55,-2.55 2.55,2.55

## QFN50P500X500X100_HS-33N [mm] "QFN, 32-Leads, Body 5.00x5.00mm, Pitch 0.50mm, Thermal Pad 3.10x3.10mm, IPC Medium Density"
height 1
pads (33):
  rect 0.7x0.2 smd: 1(-2.5,1.75) 2(-2.5,1.25) 3(-2.5,0.75) 4(-2.5,0.25) 5(-2.5,-0.25) 6(-2.5,-0.75) 7(-2.5,-1.25) 8(-2.5,-1.75) 17(2.5,-1.75) 18(2.5,-1.25) 19(2.5,-0.75) 20(2.5,-0.25) 21(2.5,0.25) 22(2.5,0.75) 23(2.5,1.25) 24(2.5,1.75)
  rect 0.2x0.7 smd: 9(-1.75,-2.5) 10(-1.25,-2.5) 11(-0.75,-2.5) 12(-0.25,-2.5) 13(0.25,-2.5) 14(0.75,-2.5) 15(1.25,-2.5) 16(1.75,-2.5) 25(1.75,2.5) 26(1.25,2.5) 27(0.75,2.5) 28(0.25,2.5) 29(-0.25,2.5) 30(-0.75,2.5) 31(-1.25,2.5) 32(-1.75,2.5)
  rect 3.1x3.1 smd paste-10: 33(0,0)
via -1.1,1.1 diameter 0.45 hole 0.25
via 0,1.1 diameter 0.45 hole 0.25
via 1.1,1.1 diameter 0.45 hole 0.25
via -1.1,0 diameter 0.45 hole 0.25
via 0,0 diameter 0.45 hole 0.25
via 1.1,0 diameter 0.45 hole 0.25
via -1.1,-1.1 diameter 0.45 hole 0.25
via 0,-1.1 diameter 0.45 hole 0.25
via 1.1,-1.1 diameter 0.45 hole 0.25
Top Overlay:
  circle w0.2: c-2.9,2.15 r0.05
  lines w0.2: -2.65,-2.25 -2.65,-2.65 -2.25,-2.65 ; -2.65,2.25 -2.65,2.65 -2.25,2.65 ; 2.25,-2.65 2.65,-2.65 2.65,-2.25 ; 2.25,2.65 2.65,2.65 2.65,2.25
Top Paste:
  rectangle: -0.4,-1.5 0.4,-0.6
  rectangle: 0.6,-0.4 1.5,0.4
  rectangle: -0.4,-0.4 0.4,0.4
  rectangle: -1.5,-0.4 -0.6,0.4
  rectangle: -1.5,-1.5 -0.6,-0.6
  rectangle: 0.6,-1.5 1.5,-0.6
  rectangle: 0.6,0.6 1.5,1.5
  rectangle: -0.4,0.6 0.4,1.5
  rectangle: -1.5,0.6 -0.6,1.5
Top Solder:
  circle w0.2: c-1.1,1.1 r0.35
  circle w0.2: c0,1.1 r0.35
  circle w0.2: c1.1,1.1 r0.35
  circle w0.2: c1.1,0 r0.35
  circle w0.2: c0,0 r0.35
  circle w0.2: c-1.1,0 r0.35
  circle w0.2: c-1.1,-1.1 r0.35
  circle w0.2: c0,-1.1 r0.35
  circle w0.2: c1.1,-1.1 r0.35
  rectangle: -1.55,-1.55 1.55,-1.35
  rectangle: -1.55,1.35 1.55,1.55
  region: 1.55,-1.55 1.55,1.55 1.35,1.55 1.35,-1.55
  region: -1.35,-1.55 -1.35,1.55 -1.55,1.55 -1.55,-1.55
  region: -0.25,-1.55 -0.25,1.55 -0.85,1.55 -0.85,-1.55
  region: 0.85,-1.55 0.85,1.55 0.25,1.55 0.25,-1.55
  region: 1.55,0.85 -1.55,0.85 -1.55,0.25 1.55,0.25
  region: 1.55,-0.25 -1.55,-0.25 -1.55,-0.85 1.55,-0.85
Mechanical 13:
  circle w0.1: c-1.6,1.6 r0.5
  lines w0.1: -2.5,-2.5 -2.5,2.5 2.5,2.5 2.5,-2.5 -2.5,-2.5
Mechanical 15:
  lines w0.05: -3.1,-3.1 -3.1,3.1 3.1,3.1 3.1,-3.1 -3.1,-3.1
  lines w0.1: -0.5,0 0.5,0 ; 0,-0.5 0,0.5
Mechanical 29:
  text ".Designator" at -2.3,-2.3 h0.8
3D body: height 1, standoff 0.02, extent -2.5,-2.5 2.5,2.5

## QFN50P700X500X80_HS-39N [mm] "QFN, 38-Leads, Body 7.00x5.00mm, Pitch 0.50mm, Thermal Pad 5.15x3.15mm, IPC Medium Density"
height 0.8
pads (39):
  rect 0.7x0.3 smd: 1(-2.55,2.75) 2(-2.55,2.25) 3(-2.55,1.75) 4(-2.55,1.25) 5(-2.55,0.75) 6(-2.55,0.25) 7(-2.55,-0.25) 8(-2.55,-0.75) 9(-2.55,-1.25) 10(-2.55,-1.75) 11(-2.55,-2.25) 12(-2.55,-2.75) 20(2.55,-2.75) 21(2.55,-2.25) 22(2.55,-1.75) 23(2.55,-1.25) 24(2.55,-0.75) 25(2.55,-0.25) 26(2.55,0.25) 27(2.55,0.75) 28(2.55,1.25) 29(2.55,1.75) 30(2.55,2.25) 31(2.55,2.75)
  rect 0.3x0.7 smd: 13(-1.5,-3.55) 14(-1,-3.55) 15(-0.5,-3.55) 16(0,-3.55) 17(0.5,-3.55) 18(1,-3.55) 19(1.5,-3.55) 32(1.5,3.55) 33(1,3.55) 34(0.5,3.55) 35(0,3.55) 36(-0.5,3.55) 37(-1,3.55) 38(-1.5,3.55)
  rect 3.15x5.15 smd paste-10: 39(0,0)
Top Overlay:
  circle w0.25: c-3.071,3.5 r0.071
  lines w0.2: -2.7,-3.3 -2.7,-3.7 -2.05,-3.7 ; -2.7,3.3 -2.7,3.7 -2.05,3.7 ; 2.05,-3.7 2.7,-3.7 2.7,-3.3 ; 2.05,3.7 2.7,3.7 2.7,3.3
Top Paste:
  region: 1.5,2.5 0.7,2.5 0.7,1.8 1.5,1.8
  region: 0.4,2.5 -0.4,2.5 -0.4,1.8 0.4,1.8
  region: -0.7,2.5 -1.5,2.5 -1.5,1.8 -0.7,1.8
  region: 1.5,-1.8 0.7,-1.8 0.7,-2.5 1.5,-2.5
  region: 0.4,-1.8 -0.4,-1.8 -0.4,-2.5 0.4,-2.5
  region: 1.5,0.4 0.7,0.4 0.7,-0.4 1.5,-0.4
  region: 0.4,0.4 -0.4,0.4 -0.4,-0.4 0.4,-0.4
  region: -0.7,0.4 -1.5,0.4 -1.5,-0.4 -0.7,-0.4
  region: -0.7,-0.7 -1.5,-0.7 -1.5,-1.5 -0.7,-1.5
  region: 0.4,-0.7 -0.4,-0.7 -0.4,-1.5 0.4,-1.5
  region: 1.5,-0.7 0.7,-0.7 0.7,-1.5 1.5,-1.5
  region: 1.5,1.5 0.7,1.5 0.7,0.7 1.5,0.7
  region: 0.4,1.5 -0.4,1.5 -0.4,0.7 0.4,0.7
  region: -0.7,1.5 -1.5,1.5 -1.5,0.7 -0.7,0.7
  region: -0.7,-1.8 -1.5,-1.8 -1.5,-2.5 -0.7,-2.5
Mechanical 13:
  circle w0.1: c-1.65,2.65 r0.5
  lines w0.1: -2.55,-3.55 2.55,-3.55 2.55,3.55 -2.55,3.55 -2.55,-3.55
Mechanical 15:
  lines w0.05: -3.125,-4.125 3.125,-4.125 3.125,4.125 -3.125,4.125 -3.125,-4.125
  lines w0.1: -0.5,0 0.5,0 ; 0,-0.5 0,0.5
Mechanical 29:
  text ".Designator" at -2.3,-3.3 h1
3D body: height 0.8, standoff 0, extent -2.55,-3.55 2.55,3.55

## QFN50P900X900X91-64N [mm] "QFN, 64-Leads, Body 9.00x9.00mm, Pitch 0.50mm, IPC Medium Density"
height 0.91
pads (64):
  rect 0.7x0.25 smd: 1(-4.55,3.75) 2(-4.55,3.25) 3(-4.55,2.75) 4(-4.55,2.25) 5(-4.55,1.75) 6(-4.55,1.25) 7(-4.55,0.75) 8(-4.55,0.25) 9(-4.55,-0.25) 10(-4.55,-0.75) 11(-4.55,-1.25) 12(-4.55,-1.75) 13(-4.55,-2.25) 14(-4.55,-2.75) 15(-4.55,-3.25) 16(-4.55,-3.75) 33(4.55,-3.75) 34(4.55,-3.25) 35(4.55,-2.75) 36(4.55,-2.25) 37(4.55,-1.75) 38(4.55,-1.25) 39(4.55,-0.75) 40(4.55,-0.25) 41(4.55,0.25) 42(4.55,0.75) 43(4.55,1.25) 44(4.55,1.75) 45(4.55,2.25) 46(4.55,2.75) 47(4.55,3.25) 48(4.55,3.75)
  rect 0.25x0.7 smd: 17(-3.75,-4.55) 18(-3.25,-4.55) 19(-2.75,-4.55) 20(-2.25,-4.55) 21(-1.75,-4.55) 22(-1.25,-4.55) 23(-0.75,-4.55) 24(-0.25,-4.55) 25(0.25,-4.55) 26(0.75,-4.55) 27(1.25,-4.55) 28(1.75,-4.55) 29(2.25,-4.55) 30(2.75,-4.55) 31(3.25,-4.55) 32(3.75,-4.55) 49(3.75,4.55) 50(3.25,4.55) 51(2.75,4.55) 52(2.25,4.55) 53(1.75,4.55) 54(1.25,4.55) 55(0.75,4.55) 56(0.25,4.55) 57(-0.25,4.55) 58(-0.75,4.55) 59(-1.25,4.55) 60(-1.75,4.55) 61(-2.25,4.55) 62(-2.75,4.55) 63(-3.25,4.55) 64(-3.75,4.55)
Top Overlay:
  circle w0.2: c-4.55,5 r0.05
  lines w0.2: -4.69,-4.275 -4.69,-4.69 -4.275,-4.69 ; -4.69,4.275 -4.69,4.69 -4.275,4.69 ; 4.275,-4.69 4.69,-4.69 4.69,-4.275 ; 4.275,4.69 4.69,4.69 4.69,4.275
Mechanical 13:
  circle w0.1: c-3.64,3.64 r0.5
  lines w0.1: -4.54,-4.54 4.54,-4.54 4.54,4.54 -4.54,4.54 -4.54,-4.54
Mechanical 15:
  lines w0.05: -5.125,-5.125 5.125,-5.125 5.125,5.125 -5.125,5.125 -5.125,-5.125
  lines w0.1: -0.5,0 0.5,0 ; 0,-0.5 0,0.5
Mechanical 29:
  text ".Designator" at -4.4,-4.4 h0.8
3D body: height 0.91, standoff 0, extent -4.54,-4.54 4.54,4.54